# EAGLE library part ARM-JTAG-SWD (library kanflo)
ARM 10 pin IDC connector for SWD with optional RXI/TXO.
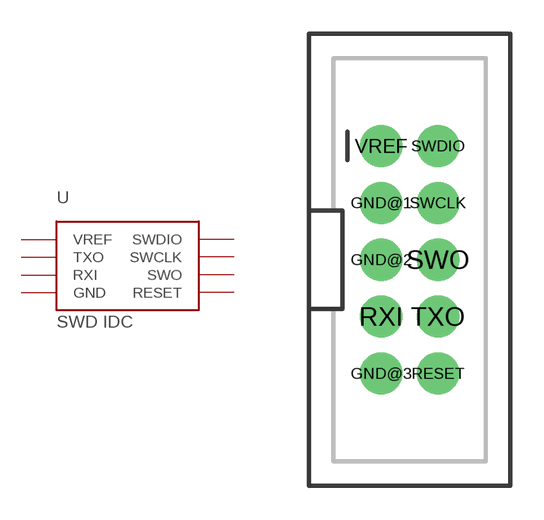
[diagram p25: symbol with the pads of ARM-JTAG-10-SWD-IDC; footprint ARM-JTAG-10-SWD-IDC]

Designator prefix -

## ARM-JTAG-SWD-IDC  [ARM-JTAG-10-SWD-IDC]
GND@1  GND
GND@2  GND
GND@3  GND
RESET  RESET
RXI  RXI
SWCLK  SWCLK
SWDIO  SWDIO
SWO  SWO
TXO  TXO
VREF  VREF

## Footprint ARM-JTAG-10-SWD-IDC (pad centres in mm)
drill 1.016 pad 1.88: GND@1 -1.27,2.54; GND@2 -1.27,0; GND@3 -1.27,-5.08; RESET 1.27,-5.08; RXI -1.27,-2.54; SWCLK 1.27,2.54; SWDIO 1.27,5.08; SWO 1.27,0; TXO 1.27,-2.54; VREF -1.27,5.08